# Altium footprint library sd2snes.PcbLib: 27 footprints (part 2 of 2)
Each footprint in its own frame and in the unit in brackets; x right, y up, seen from the top. Pads: shape width x height; smd on the part's side, far side on the other; paste and mask are expansions set on the pad; w line width, h text height; cw(c..) or ccw(c..) is an arc to the next point about the centre after c.
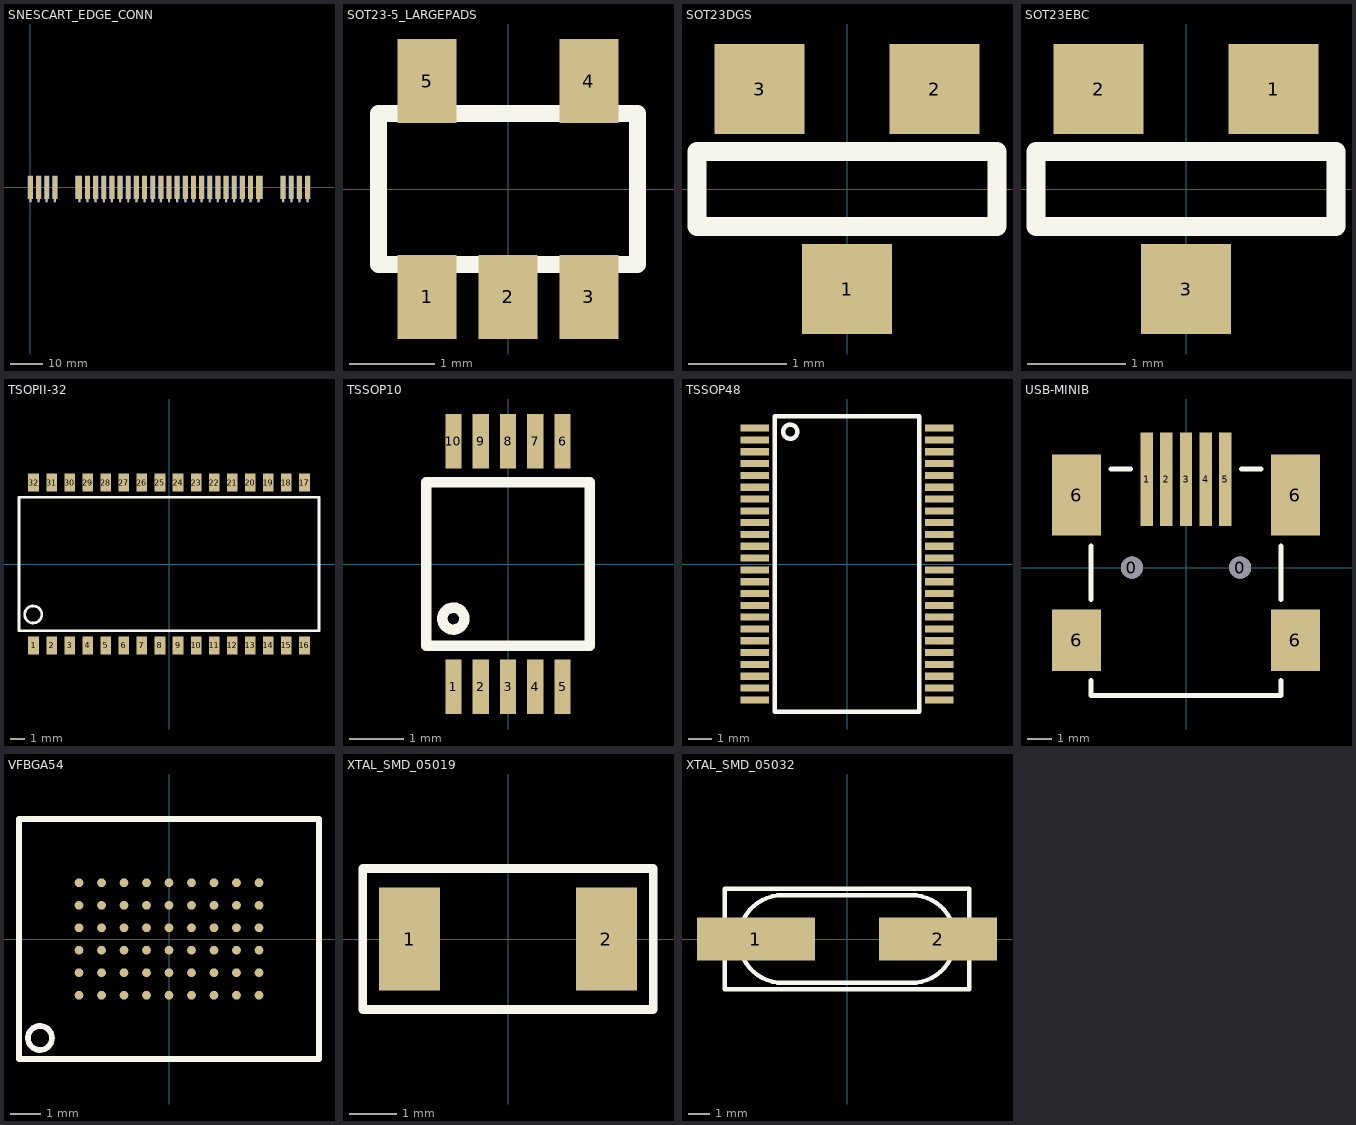
[diagram p1: the footprints below, top view; thin cyan lines are the x and y axes]

## SNESCART_EDGE_CONN [mm] "SNES Cartridge Edge Connector"
pads (124):
  rect 0.6x1.1 smd paste-1 mask-1: 1(0,-3.95) 2(2.5,-3.95) 3(5,-3.95) 4(7.5,-3.95) 5(15,-3.95) 6(17.5,-3.95) 7(20,-3.95) 8(22.5,-3.95) 9(25,-3.95) 10(27.5,-3.95) 11(30,-3.95) 12(32.5,-3.95) 13(35,-3.95) 14(37.5,-3.95) 15(40,-3.95) 16(42.5,-3.95) 17(45,-3.95) 18(47.5,-3.95) 19(50,-3.95) 20(52.5,-3.95) 21(55,-3.95) 22(57.5,-3.95) 23(60,-3.95) 24(62.5,-3.95) 25(65,-3.95) 26(67.5,-3.95) 27(70,-3.95) 28(77.5,-3.95) 29(80,-3.95) 30(82.5,-3.95) 31(85,-3.95)
  rect 1.5x7 smd paste-1 mask-1: 1(0,0) 2(2.5,0) 3(5,0) 4(7.5,0) 6(17.5,0) 7(20,0) 8(22.5,0) 9(25,0) 10(27.5,0) 11(30,0) 12(32.5,0) 13(35,0) 14(37.5,0) 15(40,0) 16(42.5,0) 17(45,0) 18(47.5,0) 19(50,0) 20(52.5,0) 21(55,0) 22(57.5,0) 23(60,0) 24(62.5,0) 25(65,0) 26(67.5,0) 28(77.5,0) 29(80,0) 30(82.5,0) 31(85,0)
  rect 2x7 smd paste-1 mask-1: 5(14.75,0) 27(70.25,0)
  rect 0.6x1.1 smd far side paste-1 mask-1: 32(0,-3.95) 33(2.5,-3.95) 34(5,-3.95) 35(7.5,-3.95) 36(15,-3.95) 37(17.5,-3.95) 38(20,-3.95) 39(22.5,-3.95) 40(25,-3.95) 41(27.5,-3.95) 42(30,-3.95) 43(32.5,-3.95) 44(35,-3.95) 45(37.5,-3.95) 46(40,-3.95) 47(42.5,-3.95) 48(45,-3.95) 49(47.5,-3.95) 50(50,-3.95) 51(52.5,-3.95) 52(55,-3.95) 53(57.5,-3.95) 54(60,-3.95) 55(62.5,-3.95) 56(65,-3.95) 57(67.5,-3.95) 58(70,-3.95) 59(77.5,-3.95) 60(80,-3.95) 61(82.5,-3.95) 62(85,-3.95)
  rect 1.5x7 smd far side paste-1 mask-1: 32(0,0) 33(2.5,0) 34(5,0) 35(7.5,0) 37(17.5,0) 38(20,0) 39(22.5,0) 40(25,0) 41(27.5,0) 42(30,0) 43(32.5,0) 44(35,0) 45(37.5,0) 46(40,0) 47(42.5,0) 48(45,0) 49(47.5,0) 50(50,0) 51(52.5,0) 52(55,0) 53(57.5,0) 54(60,0) 55(62.5,0) 56(65,0) 57(67.5,0) 59(77.5,0) 60(80,0) 61(82.5,0) 62(85,0)
  rect 2x7 smd far side paste-1 mask-1: 36(14.75,0) 58(70.25,0)
Top Solder:
  rectangle: -2.5,-4.5 87.5,3.5
Bottom Solder:
  rectangle: -2.5,-4.5 87.5,3.5

## SOT23-5_LARGEPADS [mil]
pads (5):
  rrect1% 27.2x39 smd: 1(-37.5,-50) 2(0,-50) 3(37.5,-50) 4(37.5,50) 5(-37.5,50)
Top Overlay:
  lines w8: -60,-35 60,-35 60,35 -60,35 -60,-35

## SOT23DGS [mil]
pads (3):
  rrect1% 36x36 smd: 1(0,-40) 2(35,40) 3(-35,40)
Top Overlay:
  lines w7.5: -60,-15 60,-15 60,15 -60,15 -60,-15

## SOT23EBC [mil]
pads (3):
  rrect1% 36x36 smd: 1(35,40) 2(-35,40) 3(0,-40)
Top Overlay:
  lines w7.5: -60,-15 -60,15 60,15 60,-15 -60,-15

## TSOPII-32 [mil]
pads (32):
  rrect1% 29.5x49.9 smd: 1(-375,-225) 2(-325,-225) 3(-275,-225) 4(-225,-225) 5(-175,-225) 6(-125,-225) 7(-75,-225) 8(-25,-225) 9(25,-225) 10(75,-225) 11(125,-225) 12(175,-225) 13(225,-225) 14(275,-225) 15(325,-225) 16(375,-225) 17(375,225) 18(325,225) 19(275,225) 20(225,225) 21(175,225) 22(125,225) 23(75,225) 24(25,225) 25(-25,225) 26(-75,225) 27(-125,225) 28(-175,225) 29(-225,225) 30(-275,225) 31(-325,225) 32(-375,225)
Top Overlay:
  circle w7.5: c-376,-139.8 r23.68
  lines w7.5: -415.3,-185 415.3,-185 415.3,185 -415.3,185 -415.3,-185

## TSSOP10 [mil]
pads (10):
  rrect1% 11.8x39.3 smd: 1(-39.3,-88.5) 2(-19.6,-88.5) 3(0,-88.5) 4(19.6,-88.5) 5(39.3,-88.5) 6(39.3,88.5) 7(19.6,88.5) 8(0,88.5) 9(-19.6,88.5) 10(-39.3,88.5)
Top Overlay:
  circle w7.5: c-39.4,-39.4 r7.9
  lines w7.5: -59,-59 -59,59 59,59 59,-59 -59,-59

## TSSOP48 [mil]
pads (48):
  rrect1% 47.2x11.8 smd: 1(-153.5,226.38) 2(-153.5,206.69) 3(-153.5,187.01) 4(-153.5,167.32) 5(-153.5,147.64) 6(-153.5,127.95) 7(-153.5,108.27) 8(-153.5,88.58) 9(-153.5,68.9) 10(-153.5,49.21) 11(-153.5,29.53) 12(-153.5,9.84) 13(-153.5,-9.84) 14(-153.5,-29.53) 15(-153.5,-49.21) 16(-153.5,-68.9) 17(-153.5,-88.58) 18(-153.5,-108.27) 19(-153.5,-127.95) 20(-153.5,-147.64) 21(-153.5,-167.32) 22(-153.5,-187.01) 23(-153.5,-206.69) 24(-153.5,-226.38) 25(153.5,-226.38) 26(153.5,-206.69) 27(153.5,-187.01) 28(153.5,-167.32) 29(153.5,-147.64) 30(153.5,-127.95) 31(153.5,-108.27) 32(153.5,-88.58) 33(153.5,-68.9) 34(153.5,-49.21) 35(153.5,-29.53) 36(153.5,-9.84) 37(153.5,9.84) 38(153.5,29.53) 39(153.5,49.21) 40(153.5,68.9) 41(153.5,88.58) 42(153.5,108.27) 43(153.5,127.95) 44(153.5,147.64) 45(153.5,167.32) 46(153.5,187.01) 47(153.5,206.69) 48(153.5,226.38)
Top Overlay:
  circle w7.5: c-94.5,220.5 r11.81
  lines w7.5: -120,-246 -120,246 120,246 120,-246 -120,-246

## USB-MINIB [mil]
pads (11):
  round 35.4 hole 35.4 unplated: 0(-86.6,0) 0(86.6,0)
  rrect1% 19.7x149.6 smd: 1(-63,141.8) 2(-31.5,141.8) 3(0,141.8) 4(31.5,141.8) 5(63,141.8)
  rrect1% 78.7x98.4 smd: 6(-175.2,-116.1) 6(175.2,-116.1)
  rrect1% 78.7x129.9 smd: 6(-175.2,116.1) 6(175.2,116.1)
Top Overlay:
  lines w8: -152,-181 -152,-205 152,-205 152,-181 ; -152,-51 -152,35 ; -120,158 -89,158 ; 89,158 120,158 ; 152,-51 152,35

## VFBGA54 [mil]
pads (54):
  round 11.4 smd: A1(-118.1,-73.8) A2(-118.1,-44.2) A3(-118.1,-14.7) A4(-118.1,14.7) A5(-118.1,44.2) A6(-118.1,73.8) B1(-88.5,-73.8) B2(-88.5,-44.2) B3(-88.5,-14.7) B4(-88.5,14.7) B5(-88.5,44.2) B6(-88.5,73.8) C1(-59,-73.8) C2(-59,-44.2) C3(-59,-14.7) C4(-59,14.7) C5(-59,44.2) C6(-59,73.8) D1(-29.5,-73.8) D2(-29.5,-44.2) D3(-29.5,-14.7) D4(-29.5,14.7) D5(-29.5,44.2) D6(-29.5,73.8) E1(0,-73.8) E2(0,-44.2) E3(0,-14.7) E4(0,14.7) E5(0,44.2) E6(0,73.8) F1(29.5,-73.8) F2(29.5,-44.2) F3(29.5,-14.7) F4(29.5,14.7) F5(29.5,44.2) F6(29.5,73.8) G1(59,-73.8) G2(59,-44.2) G3(59,-14.7) G4(59,14.7) G5(59,44.2) G6(59,73.8) H1(88.5,-73.8) H2(88.5,-44.2) H3(88.5,-14.7) H4(88.5,14.7) H5(88.5,44.2) H6(88.5,73.8) J1(118.1,-73.8) J2(118.1,-44.2) J3(118.1,-14.7) J4(118.1,14.7) J5(118.1,44.2) J6(118.1,73.8)
Top Overlay:
  circle w7.5: c-169.3,-129.9 r15.8
  lines w7.5: -196.8,-157.4 -196.8,157.4 196.8,157.4 196.8,-157.4 -196.8,-157.4

## XTAL_SMD_05019 [mil]
pads (2):
  rrect1% 51.2x86.6 smd: 1(-82.7,0) 2(82.7,0)
Top Overlay:
  lines w7.5: -122,-59.1 122,-59.1 122,59.1 -122,59.1 -122,-59.1

## XTAL_SMD_05032 [mil]
pads (2):
  rrect1% 216.6x78.7 smd: 1(-167.3,0) 2(167.3,0)
Top Overlay:
  lines w8: -224.4,-92.5 224.4,-92.5 224.4,92.5 -224.4,92.5 -224.4,-92.5 ; -118.1,-80.7 cw(c-118.1,0) -118.1,80.7 118.1,80.7 cw(c118.1,0) 118.1,-80.7 -118.1,-80.7